# EAGLE library part SIT3088E (library serial_interfaces)
RS-485 & RS-422
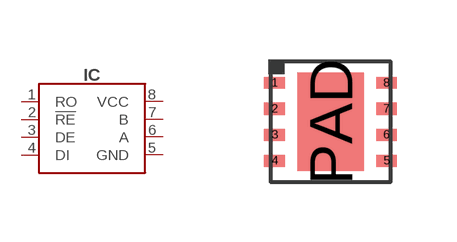
[diagram p0: symbol with the pads of SOT782-1; footprint SOT782-1]

Designator prefix IC

## SIT3088ETK (LCSC#: C601076; MANF: SIT; MANF#: SIT3088ETK)  [SOT782-1]
1  RO  out
2  !RE  in
3  DE  in
4  DI  in
5  GND  sup
6  A
7  B
8  VCC  sup

## Footprint SOT782-1 (pad centres in mm)
http://www.nxp.com/packages/SOT782-1
smd 0.525 x 0.3: 1 -1.4,0.975; 2 -1.4,0.325; 3 -1.4,-0.325; 4 -1.4,-0.975; 5 1.4,-0.975; 6 1.4,-0.325; 7 1.4,0.325; 8 1.4,0.975
smd 1.65 x 2.45: PAD 0,0